# Altium footprint library SnapEDApcb.PcbLib: 1 footprints
Each footprint in its own frame and in the unit in brackets; x right, y up, seen from the top. Pads: shape width x height; smd on the part's side, far side on the other; paste and mask are expansions set on the pad; w line width, h text height; cw(c..) or ccw(c..) is an arc to the next point about the centre after c.
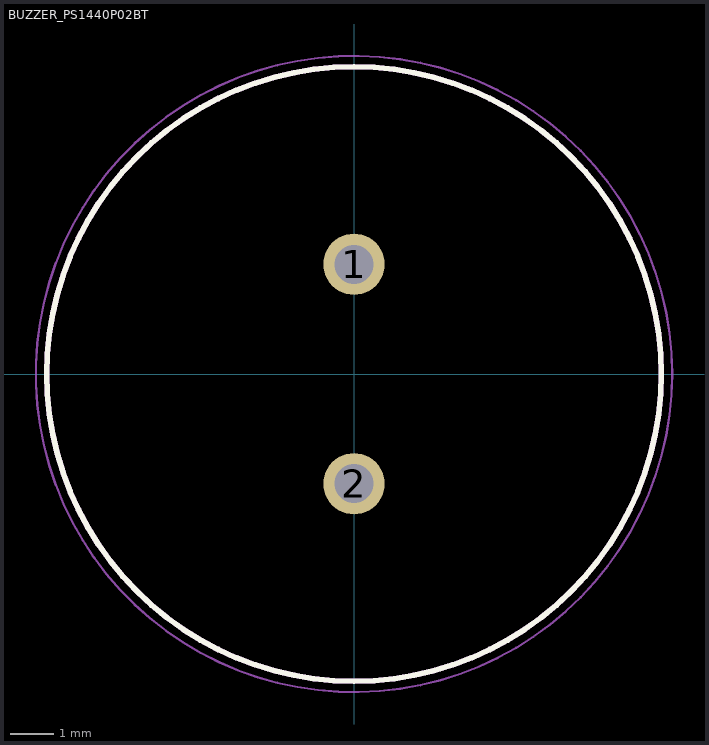
[diagram p0: the footprint, top view; thin cyan lines are the x and y axes]

## BUZZER_PS1440P02BT [mm]
pads (2):
  round 1.398 hole 0.89: 1(0,2.5) 2(0,-2.5)
Top Overlay:
  circle w0.127: c0,0 r7
Mechanical 13:
  circle w0.127: c0,0 r7
Mechanical 15:
  circle w0.05: c0,0 r7.25